# Altium schematic symbol library PCA9547.SchLib: 1 symbol
Pins are listed as number, name and electrical type; pins without a type are passive.

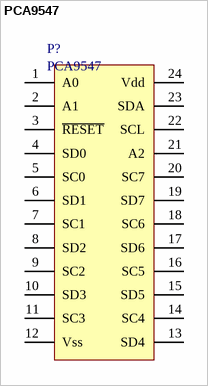
[diagram p0: symbol PCA9547]

## PCA9547
designator P?
footprint SOP24
footprint TSSOP24
footprint TSSOP24
pins: 1 A0, 2 A1, 3 ~{RESET}, 4 SD0, 5 SC0, 6 SD1, 7 SC1, 8 SD2, 9 SC2, 10 SD3, 11 SC3, 12 Vss, 13 SD4, 14 SC4, 15 SD5, 16 SC5, 17 SD6, 18 SC6, 19 SD7, 20 SC7, 21 A2, 22 SCL, 23 SDA, 24 Vdd